# Altium footprint library TE_1-284391-2.PcbLib: 1 footprints
Each footprint in its own frame and in the unit in brackets; x right, y up, seen from the top. Pads: shape width x height; smd on the part's side, far side on the other; paste and mask are expansions set on the pad; w line width, h text height; cw(c..) or ccw(c..) is an arc to the next point about the centre after c.
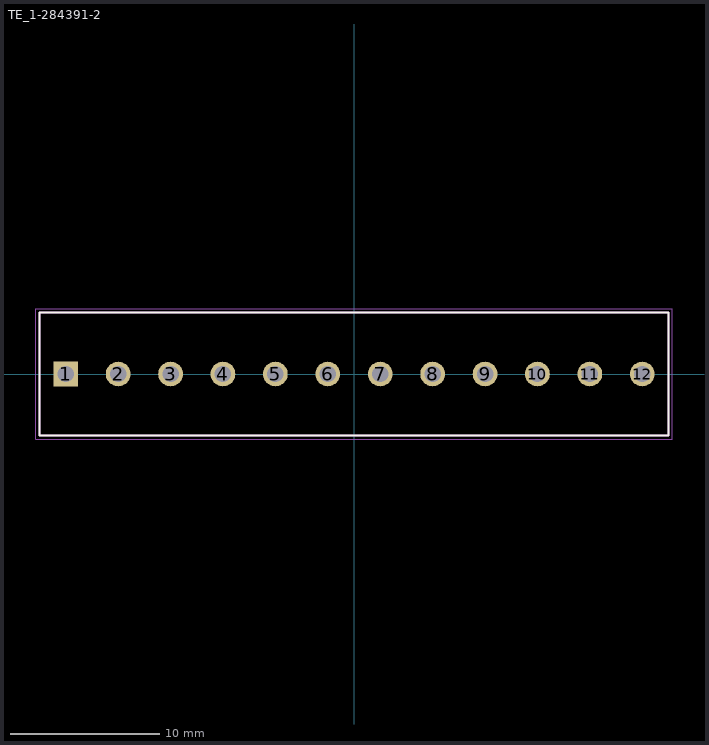
[diagram p0: the footprint, top view; thin cyan lines are the x and y axes]

## TE_1-284391-2 [mm]
pads (12):
  rect 1.65x1.65 hole 1.1: 1(-19.25,0)
  round 1.65 hole 1.1: 2(-15.75,0) 3(-12.25,0) 4(-8.75,0) 5(-5.25,0) 6(-1.75,0) 7(1.75,0) 8(5.25,0) 9(8.75,0) 10(12.25,0) 11(15.75,0) 12(19.25,0)
Top Overlay:
  lines w0.127: -21,-4.1 -21,4.1 21,4.1 21,-4.1 -21,-4.1
Mechanical 13:
  lines w0.127: -21,-4.1 -21,4.1 21,4.1 21,-4.1 -21,-4.1
Mechanical 15:
  lines w0.05: -21.25,-4.35 -21.25,4.35 21.25,4.35 21.25,-4.35 -21.25,-4.35